# EAGLE library part CINCH_50-44SN-3 (library 1A-meinLib)
CARDCON edge Connector 0.156" (3.96mm) spacing. 50-44SN-3, CINCH
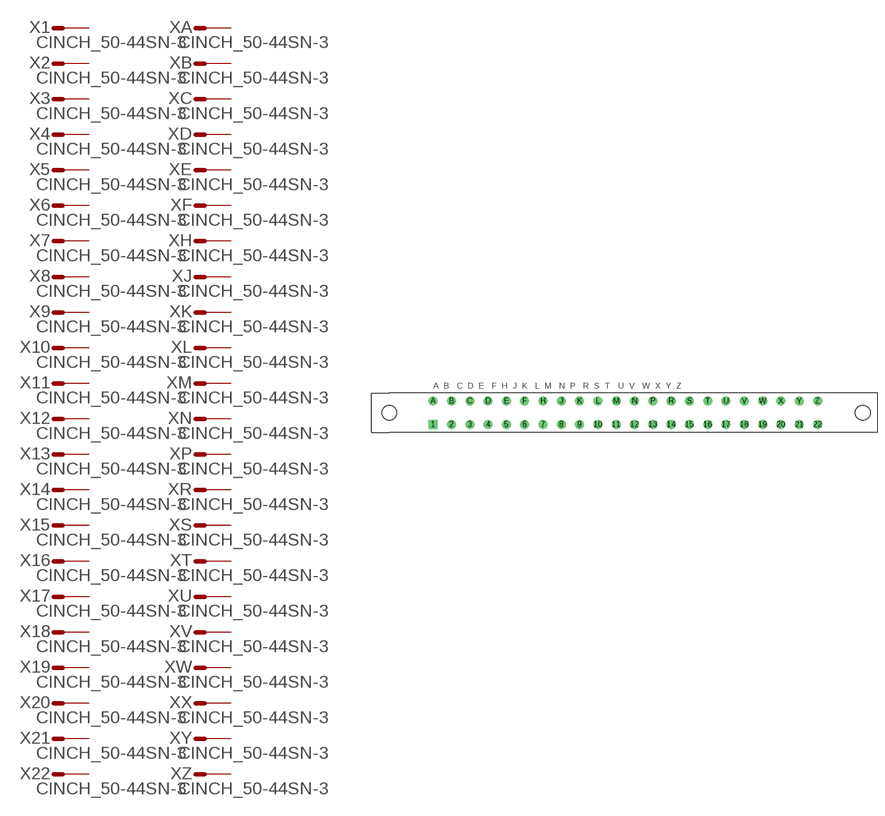
[diagram p287: symbol with the pads of CINCH_50-44SN-10; footprint CINCH_50-44SN-10]

Designator prefix X; gates 1=M-1 2=M-1 3=M-1 4=M-1 5=M-1 6=M-1 7=M-1 8=M-1 9=M-1 10=M-1 11=M-1 12=M-1 13=M-1 14=M-1 15=M-1 16=M-1 17=M-1 18=M-1 19=M-1 20=M-1 21=M-1 22=M-1 A=M-1 B=M-1 C=M-1 D=M-1 E=M-1 F=M-1 H=M-1 J=M-1 K=M-1 L=M-1 M=M-1 N=M-1 P=M-1 R=M-1 S=M-1 T=M-1 U=M-1 V=M-1 W=M-1 X=M-1 Y=M-1 Z=M-1

## CINCH_50-44SN-3  [CINCH_50-44SN-10]
1  1:S  pas
2  2:S  pas
3  3:S  pas
4  4:S  pas
5  5:S  pas
6  6:S  pas
7  7:S  pas
8  8:S  pas
9  9:S  pas
10  10:S  pas
11  11:S  pas
12  12:S  pas
13  13:S  pas
14  14:S  pas
15  15:S  pas
16  16:S  pas
17  17:S  pas
18  18:S  pas
19  19:S  pas
20  20:S  pas
21  21:S  pas
22  22:S  pas
A  A:S  pas
B  B:S  pas
C  C:S  pas
D  D:S  pas
E  E:S  pas
F  F:S  pas
H  H:S  pas
J  J:S  pas
K  K:S  pas
L  L:S  pas
M  M:S  pas
N  N:S  pas
P  P:S  pas
R  R:S  pas
S  S:S  pas
T  T:S  pas
U  U:S  pas
V  V:S  pas
W  W:S  pas
X  X:S  pas
Y  Y:S  pas
Z  Z:S  pas

## Footprint CINCH_50-44SN-10 (pad centres in mm)
CARDCON edge Connector 0.156" (3.96mm) spacing. 50-44SN-3, CINCH
drill 1.3 square: 1 0,0
drill 1.3 round: 2 3.962,0; 3 7.925,0; 4 11.887,0; 5 15.85,0; 6 19.812,0; 7 23.774,0; 8 27.737,0; 9 31.699,0; 10 35.662,0; 11 39.624,0; 12 43.586,0; 13 47.549,0; 14 51.511,0; 15 55.474,0; 16 59.436,0; 17 63.398,0; 18 67.361,0; 19 71.323,0; 20 75.286,0; 21 79.248,0; 22 83.21,0; A 0,5.08; B 3.962,5.08; C 7.925,5.08; D 11.887,5.08; E 15.85,5.08; F 19.812,5.08; H 23.774,5.08; J 27.737,5.08; K 31.699,5.08; L 35.662,5.08; M 39.624,5.08; N 43.586,5.08; P 47.549,5.08; R 51.511,5.08; S 55.474,5.08; T 59.436,5.08; U 63.398,5.08; V 67.361,5.08; W 71.323,5.08; X 75.286,5.08; Y 79.248,5.08; Z 83.21,5.08
hole 3.2 at 93,2.5
hole 3.2 at -9.5,2.5